# Altium schematic symbol library maxwell_dev_board.SchLib: 3 symbols
Pins are listed as number, name and electrical type; pins without a type are passive.

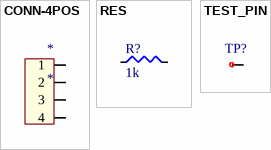
[diagram p0: symbols CONN-4POS to TEST_PIN]

## CONN-4POS
designator *
footprint 4_PIN_HEADER
pins: 1, 2, 3, 4

## RES
designator R?, comment 1k
Chip Resistor; Publisher: HabitAware; Value: 1k
footprint RES0603
pins: 1, 2

## TEST_PIN
designator TP?  (value not drawn)
footprint TEST_PIN (hole for test pins)
pins: 1